# Altium footprint library hsbest3.PcbLib: 363 footprints (part 18 of 23)
Each footprint in its own frame and in the unit in brackets; x right, y up, seen from the top. Pads: shape width x height; smd on the part's side, far side on the other; paste and mask are expansions set on the pad; w line width, h text height; cw(c..) or ccw(c..) is an arc to the next point about the centre after c.
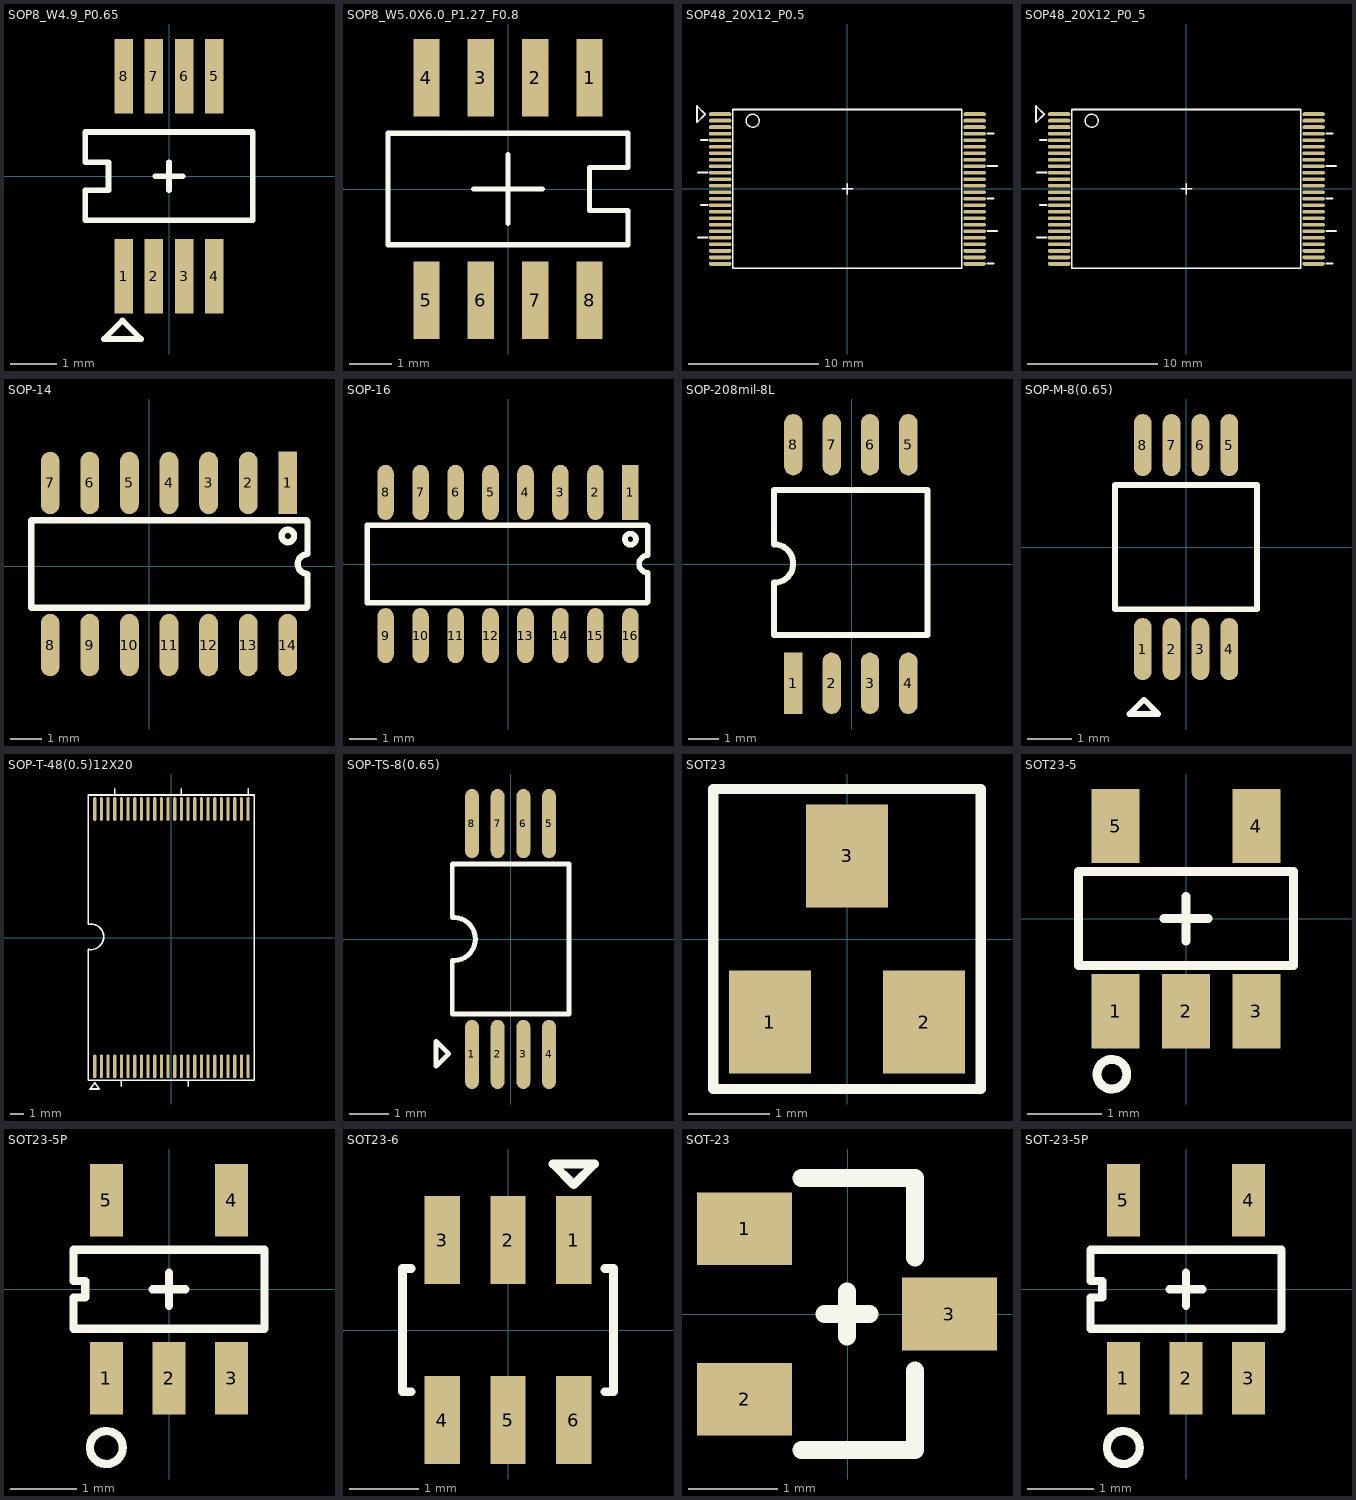
[diagram p17: the footprints below, top view; thin cyan lines are the x and y axes]

## SOP8_W4.9_P0.65 [mm]
pads (8):
  rect 0.4x1.6 smd: 1(-0.975,-2.15) 2(-0.325,-2.15) 3(0.325,-2.15) 4(0.975,-2.15) 5(0.975,2.15) 6(0.325,2.15) 7(-0.325,2.15) 8(-0.975,2.15)
Top Overlay:
  lines w0.12: -0.3,0 0.3,0 ; 0,-0.3 0,0.3 ; -1.8,-0.95 1.8,-0.95 1.8,0.95 -1.8,0.95 -1.8,0.3 -1.3,0.3 -1.3,-0.3 -1.8,-0.3 -1.8,-0.95 ; -1.4,-3.5 -0.6,-3.5 -1,-3.1 -1.4,-3.5

## SOP8_W5.0X6.0_P1.27_F0.8 [mil]
pads (8):
  rect 24x71 smd mask+2: 1(75,102.36) 2(25,102.36) 3(-25,102.36) 4(-75,102.36) 5(-75,-102.36) 6(-25,-102.36) 7(25,-102.36) 8(75,-102.36)
Top Overlay:
  lines w4.72: -31.5,0 31.5,0 ; 0,-31.5 0,31.5 ; -110.24,-51.18 -110.24,51.18 110.24,51.18 110.24,19.69 74.8,19.69 74.8,-19.69 110.24,-19.69 110.24,-51.18 -110.24,-51.18

## SOP48_20X12_P0.5 [mm]
pads (48):
  oval 1.74x0.3 smd: 1(-9.78,5.74) 2(-9.78,5.24) 3(-9.78,4.74) 4(-9.78,4.24) 5(-9.78,3.74) 6(-9.78,3.24) 7(-9.78,2.74) 8(-9.78,2.24) 9(-9.78,1.74) 10(-9.78,1.24) 11(-9.78,0.74) 12(-9.78,0.24) 13(-9.78,-0.26) 14(-9.78,-0.76) 15(-9.78,-1.26) 16(-9.78,-1.76) 17(-9.78,-2.26) 18(-9.78,-2.76) 19(-9.78,-3.26) 20(-9.78,-3.76) 21(-9.78,-4.26) 22(-9.78,-4.76) 23(-9.78,-5.26) 24(-9.78,-5.76) 25(9.778,-5.76) 26(9.778,-5.26) 27(9.778,-4.76) 28(9.778,-4.26) 29(9.778,-3.76) 30(9.778,-3.26) 31(9.778,-2.76) 32(9.778,-2.26) 33(9.778,-1.76) 34(9.778,-1.26) 35(9.778,-0.76) 36(9.778,-0.26) 37(9.778,0.24) 38(9.778,0.74) 39(9.778,1.24) 40(9.778,1.74) 41(9.778,2.24) 42(9.778,2.74) 43(9.778,3.24) 44(9.778,3.74) 45(9.778,4.24) 46(9.778,4.74) 47(9.778,5.24) 48(9.778,5.74)
Top Overlay:
  circle w0.12: c-7.28,5.24 r0.5
  lines w0.12: -0.4,0 0.4,0 ; 0,-0.4 0,0.4 ; -11.558,5.105 -10.923,5.74 -11.558,6.375 -11.558,5.105 ; -8.8,-6.1 8.8,-6.1 8.8,6.1 -8.8,6.1 -8.8,-6.1
  lines w0.15: -11.5,-3.75 -10.75,-3.75 ; -11.5,1.25 -10.75,1.25 ; -11.25,-1.25 -10.75,-1.25 ; -11.25,3.75 -10.75,3.75 ; 10.75,-5.75 11.25,-5.75 ; 10.75,-3.25 11.5,-3.25 ; 10.75,-0.75 11.25,-0.75 ; 10.75,1.75 11.5,1.75 ; 10.75,4.25 11.25,4.25
3D body: height 1, standoff 0, extent -10.354,-5.966 10.366,6.034

## SOP48_20X12_P0_5 [mm]
pads (48):
  oval 1.74x0.3 smd: 1(-9.78,5.74) 2(-9.78,5.24) 3(-9.78,4.74) 4(-9.78,4.24) 5(-9.78,3.74) 6(-9.78,3.24) 7(-9.78,2.74) 8(-9.78,2.24) 9(-9.78,1.74) 10(-9.78,1.24) 11(-9.78,0.74) 12(-9.78,0.24) 13(-9.78,-0.26) 14(-9.78,-0.76) 15(-9.78,-1.26) 16(-9.78,-1.76) 17(-9.78,-2.26) 18(-9.78,-2.76) 19(-9.78,-3.26) 20(-9.78,-3.76) 21(-9.78,-4.26) 22(-9.78,-4.76) 23(-9.78,-5.26) 24(-9.78,-5.76) 25(9.778,-5.76) 26(9.778,-5.26) 27(9.778,-4.76) 28(9.778,-4.26) 29(9.778,-3.76) 30(9.778,-3.26) 31(9.778,-2.76) 32(9.778,-2.26) 33(9.778,-1.76) 34(9.778,-1.26) 35(9.778,-0.76) 36(9.778,-0.26) 37(9.778,0.24) 38(9.778,0.74) 39(9.778,1.24) 40(9.778,1.74) 41(9.778,2.24) 42(9.778,2.74) 43(9.778,3.24) 44(9.778,3.74) 45(9.778,4.24) 46(9.778,4.74) 47(9.778,5.24) 48(9.778,5.74)
Top Overlay:
  circle w0.12: c-7.28,5.24 r0.5
  lines w0.12: -0.4,0 0.4,0 ; 0,-0.4 0,0.4 ; -11.558,5.105 -11.558,6.375 -10.923,5.74 -11.558,5.105 ; -8.8,-6.1 -8.8,6.1 8.8,6.1 8.8,-6.1 -8.8,-6.1
  lines w0.15: -11.5,-3.75 -10.75,-3.75 ; -11.5,1.25 -10.75,1.25 ; -11.25,-1.25 -10.75,-1.25 ; -11.25,3.75 -10.75,3.75 ; 10.75,-5.75 11.25,-5.75 ; 10.75,-3.25 11.5,-3.25 ; 10.75,-0.75 11.25,-0.75 ; 10.75,1.75 11.5,1.75 ; 10.75,4.25 11.25,4.25

## SOP-14 [mm]
pads (14):
  rect 0.6x2 smd: 1(4.445,2.667)
  oval 0.6x2 smd: 2(3.175,2.667) 3(1.905,2.667) 4(0.635,2.667) 5(-0.635,2.667) 6(-1.905,2.667) 7(-3.175,2.667) 8(-3.175,-2.533) 9(-1.905,-2.533) 10(-0.635,-2.533) 11(0.635,-2.533) 12(1.905,-2.533) 13(3.175,-2.533) 14(4.445,-2.533)
Top Overlay:
  circle w0.203: c4.445,0.967 r0.2
  lines w0.2: -3.78,-1.333 5.045,-1.333 5.08,-1.298 5.08,-0.698 5.08,-0.25 cw(c5.08,0.067) 5.08,0.385 5.08,0.832 5.08,1.432 5.045,1.467 -3.78,1.467 -3.78,-1.333

## SOP-16 [mm]
pads (16):
  rect 0.6x2 smd: 1(4.445,2.6)
  oval 0.6x2 smd: 2(3.175,2.6) 3(1.905,2.6) 4(0.635,2.6) 5(-0.635,2.6) 6(-1.905,2.6) 7(-3.175,2.6) 8(-4.445,2.6) 9(-4.445,-2.6) 10(-3.175,-2.6) 11(-1.905,-2.6) 12(-0.635,-2.6) 13(0.635,-2.6) 14(1.905,-2.6) 15(3.175,-2.6) 16(4.445,-2.6)
Top Overlay:
  circle w0.203: c4.445,0.9 r0.2
  lines w0.2: -5.115,-1.4 -5.115,1.4 5.045,1.4 5.08,1.365 5.08,0.765 5.08,0.318 ccw(c5.08,0) 5.08,-0.318 5.08,-0.765 5.08,-1.365 5.045,-1.4 -5.115,-1.4

## SOP-208mil-8L [mil]
pads (8):
  rect 24x80 smd: 1(-76.34,-155.51)
  oval 24x80 smd: 2(-26.34,-155.51) 3(23.66,-155.51) 4(73.66,-155.51) 5(73.66,155.51) 6(23.66,155.51) 7(-26.34,155.51) 8(-76.34,155.51)
Top Overlay:
  lines w7.87: -101.34,-92.52 98.66,-92.52 98.66,96.46 -101.34,96.46 -101.34,25.55 cw(c-101.34,0.55) -101.34,-24.45 -101.34,-92.52

## SOP-M-8(0.65) [mm]
pads (8):
  oval 0.4x1.4 smd: 1(-0.975,-2.3) 2(-0.325,-2.3) 3(0.325,-2.3) 4(0.975,-2.3) 5(0.975,2.3) 6(0.325,2.3) 7(-0.325,2.3) 8(-0.975,2.3)
Top Overlay:
  lines w0.125: -1.6,-1.4 1.6,-1.4 1.6,1.4 -1.6,1.4 -1.6,-1.4 ; -1.275,-3.762 -0.95,-3.437 -0.625,-3.762 -1.275,-3.762

## SOP-T-48(0.5)12X20 [mil]
pads (48):
  oval 9.5x70 smd: 1(-226.38,-380) 2(-206.69,-380) 3(-187.01,-380) 4(-167.32,-380) 5(-147.64,-380) 6(-127.95,-380) 7(-108.27,-380) 8(-88.58,-380) 9(-68.9,-380) 10(-49.21,-380) 11(-29.53,-380) 12(-9.84,-380) 13(9.84,-380) 14(29.53,-380) 15(49.21,-380) 16(68.9,-380) 17(88.58,-380) 18(108.27,-380) 19(127.95,-380) 20(147.64,-380) 21(167.32,-380) 22(187.01,-380) 23(206.69,-380) 24(226.38,-380) 25(226.38,380) 26(206.69,380) 27(187.01,380) 28(167.32,380) 29(147.64,380) 30(127.95,380) 31(108.27,380) 32(88.58,380) 33(68.9,380) 34(49.21,380) 35(29.53,380) 36(9.84,380) 37(-9.84,380) 38(-29.53,380) 39(-49.21,380) 40(-68.9,380) 41(-88.58,380) 42(-108.27,380) 43(-127.95,380) 44(-147.64,380) 45(-167.32,380) 46(-187.01,380) 47(-206.69,380) 48(-226.38,380)
Top Overlay:
  lines w4.92: -167.5,423 -167.5,438.98 ; -148.03,-438.98 -148.03,-423.35 ; 29.47,423 29.47,438.98 ; 49.47,-438.98 49.47,-423.35 ; 226.97,423 226.97,438.98 ; -245,-421.26 245,-421.26 245,421.26 -245,421.26 -245,40 -242.19,40 cw(c-237.72,2.5) -242.19,-35 -245,-35 -245,-421.26 ; -240.16,-446.85 -212.6,-446.85 -226.38,-428.15 -240.16,-446.85

## SOP-TS-8(0.65) [mm]
pads (8):
  oval 0.35x1.75 smd: 1(-0.975,-2.921) 2(-0.325,-2.921) 3(0.325,-2.921) 4(0.975,-2.921) 5(0.975,2.921) 6(0.325,2.921) 7(-0.325,2.921) 8(-0.975,2.921)
Top Overlay:
  lines w0.125: -1.566,-2.904 -1.883,-3.22 -1.883,-2.588 -1.565,-2.905 ; -1.475,-1.9 -1.475,-0.544 -1.418,-0.544 ccw(c-1.433,0) -1.418,0.544 -1.475,0.544 -1.475,1.9 1.475,1.9 1.475,-1.9 -1.475,-1.9

## SOT23 [mm]
pads (3):
  rect 1.016x1.27 smd: 1(-0.95,-1.025) 2(0.95,-1.025) 3(0,1.025)
Top Overlay:
  lines w0.125: -1.65,-1.85 1.65,-1.85 1.65,1.85 -1.65,1.85 -1.65,-1.85

## SOT23-5 [mm]
pads (5):
  rect 0.65x1.001 smd: 1(-0.95,-1.25) 2(0,-1.25) 3(0.95,-1.25) 4(0.95,1.25) 5(-0.95,1.25)
Top Overlay:
  circle w0.12: c-1,-2.1 r0.2
  lines w0.12: -0.3,0 0.3,0 ; 0,-0.3 0,0.3 ; -1.45,-0.635 -1.45,0.635 1.45,0.635 1.45,-0.635 -1.45,-0.635

## SOT23-5P [mm]
pads (5):
  rect 0.5x1.1 smd: 1(-0.95,-1.35) 2(0,-1.35) 3(0.95,-1.35) 4(0.95,1.35) 5(-0.95,1.35)
Top Overlay:
  circle w0.125: c-0.95,-2.4 r0.25
  lines w0.125: -0.25,0 0.25,0 ; 0,-0.25 0,0.25 ; -1.45,-0.6 1.45,-0.6 1.45,0.6 -1.45,0.6 -1.45,0.125 -1.269,0.125 -1.269,-0.125 -1.45,-0.125 -1.45,-0.6

## SOT23-6 [mm]
pads (6):
  rect 0.508x1.27 smd: 1(0.95,1.3) 2(0,1.3) 3(-0.95,1.3) 4(-0.95,-1.3) 5(0,-1.3) 6(0.95,-1.3)
Top Overlay:
  lines w0.125: -1.397,-0.889 -1.524,-0.889 -1.524,0.889 -1.397,0.889 ; 1.397,-0.889 1.524,-0.889 1.524,0.889 1.397,0.889 ; 0.65,2.4 0.95,2.1 1.25,2.4 0.65,2.4

## SOT-23 [mil]
pads (3):
  rect 42x32 smd: 1(-45.45,37.75) 2(-45.45,-37.35) 3(44.85,0.2)
Top Overlay:
  lines w8: -20.3,-59.8 29.7,-59.8 29.7,-24.8 ; -20.3,60.2 29.7,60.2 29.7,25.2 ; -10.15,0.2 9.55,0.2 ; -0.3,-9.65 -0.3,10.05

## SOT-23-5P [mm]
pads (5):
  rect 0.5x1.1 smd: 1(-0.95,-1.35) 2(0,-1.35) 3(0.95,-1.35) 4(0.95,1.35) 5(-0.95,1.35)
Top Overlay:
  circle w0.125: c-0.95,-2.4 r0.25
  lines w0.125: -0.25,0 0.25,0 ; 0,-0.25 0,0.25 ; -1.45,-0.6 -1.45,-0.125 -1.269,-0.125 -1.269,0.125 -1.45,0.125 -1.45,0.6 1.45,0.6 1.45,-0.6 -1.45,-0.6